# Altium footprint library Crystals.PcbLib: 5 footprints
Each footprint in its own frame and in the unit in brackets; x right, y up, seen from the top. Pads: shape width x height; smd on the part's side, far side on the other; paste and mask are expansions set on the pad; w line width, h text height; cw(c..) or ccw(c..) is an arc to the next point about the centre after c.
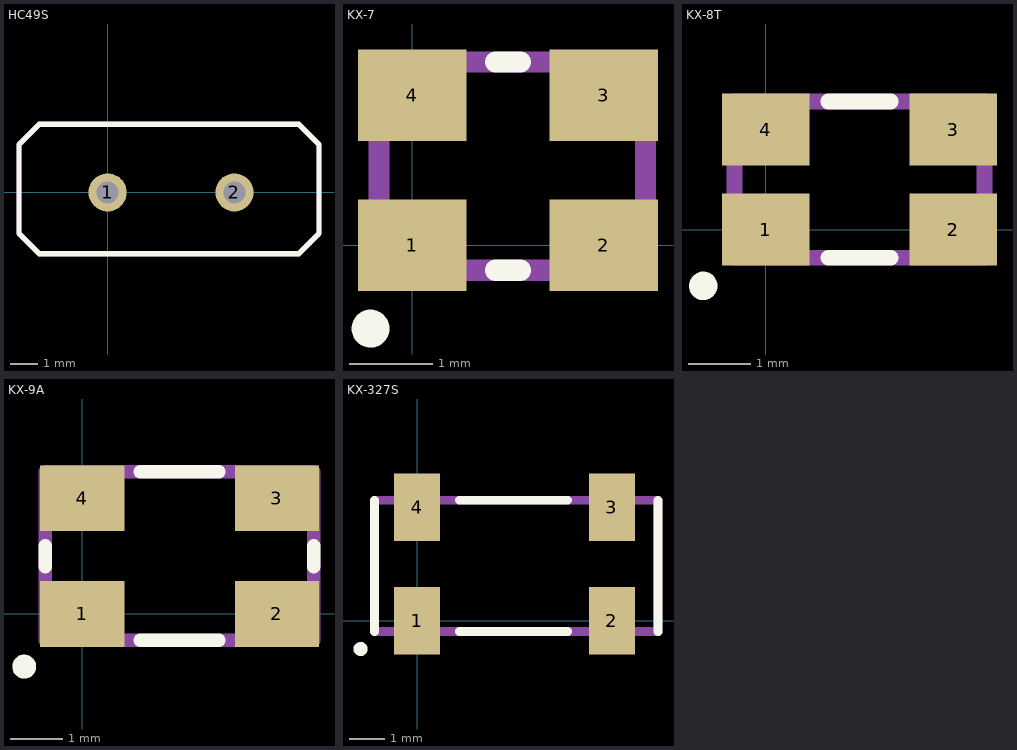
[diagram p0: the footprints below, top view; thin cyan lines are the x and y axes]

## HC49S [mm]
pads (2):
  round 1.4 hole 0.8: 1(0,0) 2(4.65,0)
Top Overlay:
  lines w0.2: -3.25,-1.5 -2.5,-2.25 7,-2.25 7.75,-1.5 7.75,1.75 7,2.5 -2.5,2.5 -3.25,1.75 -3.25,-1.5
TopAssy:
  lines w0.2: -3.25,-1.5 -3.25,1.75 -2.5,2.5 7,2.5 7.75,1.75 7.75,-1.5 7,-2.25 -2.5,-2.25 -3.25,-1.5
3D body "User Library-HC-49.step": height 3.5, standoff -3, extent -3.1,-2.2 7.7,2.3

## KX-7 [mm]
pads (4):
  rect 1.3x1.1 smd: 1(0,0) 2(2.3,0) 3(2.3,1.8) 4(0,1.8)
Top Overlay:
  circle w0.254: c-0.5,-1 r0.1
  lines w0.254: 1,-0.3 1.3,-0.3 ; 1,2.2 1.3,2.2
TopAssy:
  lines w0.254: -0.4,-0.3 2.8,-0.3 2.8,2.2 -0.4,2.2 -0.4,-0.3
3D body "User Library-GeyerElectronics_KX7.step": height 0.81, standoff 0, extent -0.407,-0.35 2.807,2.15

## KX-8T [mm]
pads (4):
  rect 1.4x1.15 smd: 1(0,0) 2(3,0) 3(3,1.6) 4(0,1.6)
Top Overlay:
  circle w0.254: c-1,-0.9 r0.1
  lines w0.254: 1,-0.45 2,-0.45 ; 1,2.05 2,2.05
TopAssy:
  lines w0.254: -0.5,-0.45 3.5,-0.45 3.5,2.05 -0.5,2.05 -0.5,-0.45
3D body "User Library-GeyerElectronics_KX8A.step": height 0.81, standoff 0, extent -0.5,-0.45 3.5,2.05

## KX-9A [mm]
pads (4):
  rect 1.6x1.25 smd: 1(0,0) 2(3.7,0) 3(3.7,2.2) 4(0,2.2)
Top Overlay:
  circle w0.254: c-1.1,-1 r0.1
  lines w0.254: -0.7,0.9 -0.7,1.3 ; 1.1,-0.5 2.6,-0.5 ; 1.1,2.7 2.6,2.7 ; 4.4,0.9 4.4,1.3
TopAssy:
  lines w0.254: -0.7,-0.5 -0.7,2.7 4.4,2.7 4.4,-0.5 -0.7,-0.5
3D body "User Library-GeyerElectronics_KX9A.step": height 1.01, standoff 0, extent -0.65,-0.5 4.35,2.7

## KX-327S [mm]
pads (4):
  rect 1.3x1.9 smd: 1(0,0) 2(5.5,0) 3(5.5,3.2) 4(0,3.2)
Top Overlay:
  circle w0.254: c-1.6,-0.8 r0.071
  lines w0.254: -1.2,-0.3 -1.2,3.4 ; 1.2,-0.3 4.25,-0.3 ; 1.2,3.4 4.25,3.4 ; 6.8,-0.3 6.8,3.4
TopAssy:
  lines w0.254: -1.2,-0.3 6.8,-0.3 6.8,3.4 -1.2,3.4 -1.2,-0.3
3D body "User Library-KX-327S.step": height 2.5, standoff 0, extent -1.2,-0.3 6.8,3.4